# Altium schematic symbol library SM.HOMESchlib.SchLib: 19 symbols
Pins are listed as number, name and electrical type; pins without a type are passive.

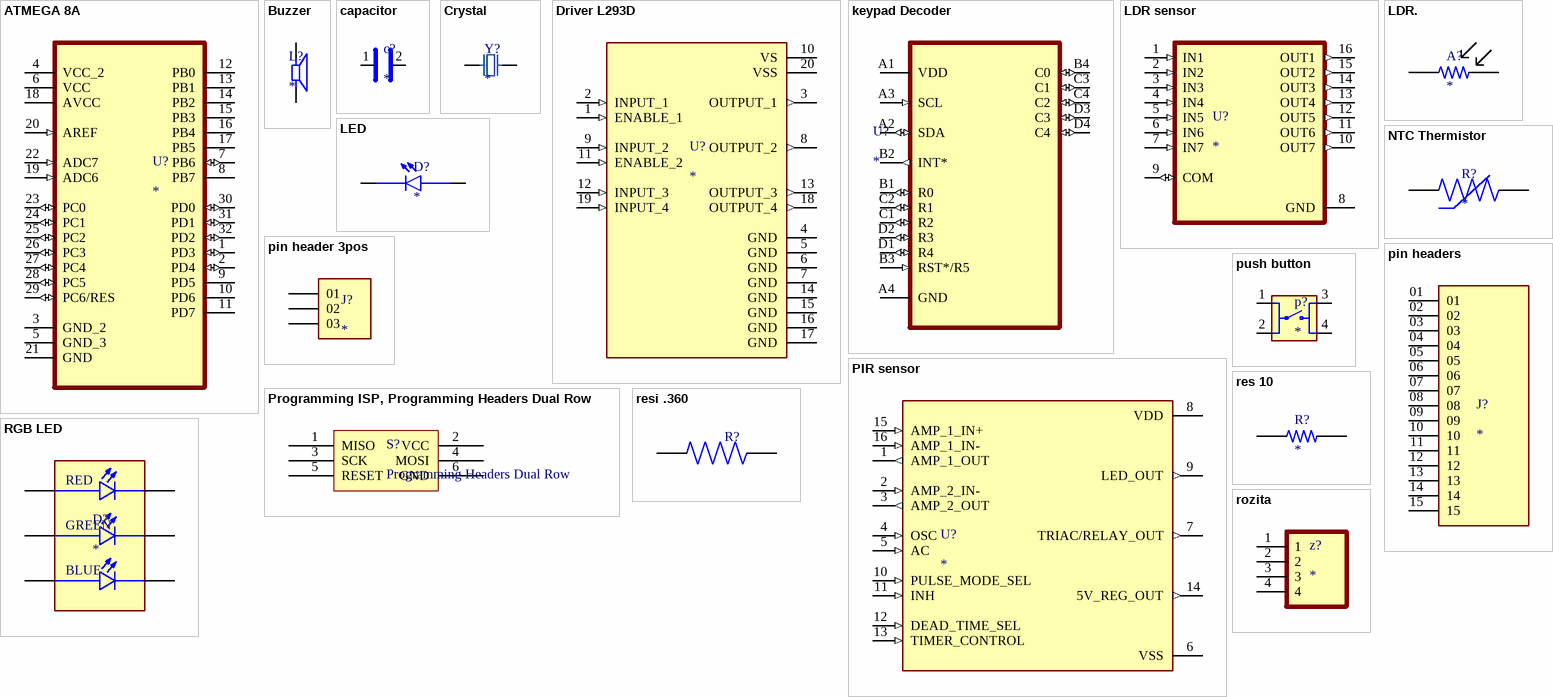
[diagram p0: symbols ATMEGA 8A to rozita]

## ATMEGA 8A
designator U?
IC MCU 8BIT 8KB FLASH 32TQFP; Manufacturer: Microchip Technology; Manufacturer Product Number: ATMEGA8A-AN; Supplier: DigiKey; DigiKey Part Number: ATMEGA8A-AN-ND
footprint ATMEGA 8A
pins: 1 PD3 (io), 2 PD4 (io), 3 GND_2, 4 VCC_2 (power), 5 GND_3, 6 VCC (power), 7 PB6 (io), 8 PB7, 9 PD5, 10 PD6, 11 PD7, 12 PB0, 13 PB1, 14 PB2, 15 PB3, 16 PB4, 17 PB5, 18 AVCC (power), 19 ADC6 (in), 20 AREF (in), 21 GND, 22 ADC7 (in), 23 PC0 (io), 24 PC1 (io), 25 PC2 (io), 26 PC3 (io), 27 PC4 (io), 28 PC5 (io), 29 PC6/RES (io), 30 PD0 (io), 31 PD1 (io), 32 PD2 (io)

## Buzzer
designator L?
BUZZER MAGNETIC 5V 12.8X12.8 SMD; Manufacturer: CUI Devices; Manufacturer Product Number: CT-1205H-SMT-TR; Supplier: DigiKey; DigiKey Part Number: 102-1266-2-ND
footprint Buzzer
pins: 1, 2

## capacitor
designator c?
CAP CER 10UF 10V X7R 0603; Manufacturer: Murata Electronics; Manufacturer Product Number: GRM188Z71A106KA73D; Supplier: DigiKey; DigiKey Part Number: 490-GRM188Z71A106KA73DTR-ND
footprint capacitor
pins: 1, 2

## Crystal
designator Y?
CRYSTAL 16.0000MHZ SERIES SMD; Manufacturer: ECS Inc.; Manufacturer Product Number: ECS-160-S-5PX-TR; Supplier: DigiKey; DigiKey Part Number: XC1251TR-ND
footprint Crystal
pins: 1, 2

## Driver L293D
designator U?
IC MTR DRV BIPOLR 4.5-36V 20SOIC; Manufacturer: STMicroelectronics; Manufacturer Product Number: L293DD; Supplier: DigiKey; DigiKey Part Number: 497-1390-5-ND
footprint Driver L293D
pins: 1 ENABLE_1 (in), 2 INPUT_1 (in), 3 OUTPUT_1 (out), 4 GND (power), 5 GND (power), 6 GND (power), 7 GND (power), 8 OUTPUT_2 (out), 9 INPUT_2 (in), 10 VS (power), 11 ENABLE_2 (in), 12 INPUT_3 (in), 13 OUTPUT_3 (out), 14 GND (power), 15 GND (power), 16 GND (power), 17 GND (power), 18 OUTPUT_4 (out), 19 INPUT_4 (in), 20 VSS (power)

## keypad Decoder
designator U?
IC INTFACE SPECIALIZED 16WLCSP; Manufacturer: Analog Devices Inc.; Manufacturer Product Number: ADP5585ACBZ-00-R7; Supplier: DigiKey; DigiKey Part Number: ADP5585ACBZ-00-R7TR-ND
footprint keypad decoder
pins: A1 VDD (power), A2 SDA (io), A3 SCL (in), A4 GND, B1 R0 (io), B2 INT* (out), B3 RST*/R5 (in), B4 C0 (io), C1 R2 (io), C2 R1 (io), C3 C1 (io), C4 C2 (io), D1 R4 (io), D2 R3 (io), D3 C3 (io), D4 C4 (io)

## LDR sensor
designator U?
IC PWR DRIVER N-CHAN 1:1 16SOIC; Manufacturer: Texas Instruments; Manufacturer Product Number: TPL7407LDR; Supplier: DigiKey; DigiKey Part Number: 296-37284-2-ND
footprint LDR sensor
pins: 1 IN1 (in), 2 IN2 (in), 3 IN3 (in), 4 IN4 (in), 5 IN5 (in), 6 IN6 (in), 7 IN7 (in), 8 GND (power), 9 COM (io), 10 OUT7 (out), 11 OUT6 (out), 12 OUT5 (out), 13 OUT4 (out), 14 OUT3 (out), 15 OUT2 (out), 16 OUT1 (out)

## LDR.
designator A?
SENSOR PHOTO 630NM 2SMD; Manufacturer: Everlight Electronics Co Ltd; Manufacturer Product Number: ALS-PT19-315C/L177/TR8; Supplier: DigiKey; DigiKey Part Number: 1080-1244-2-ND
footprint LDR.
pins: 1, 2

## LED
designator D?
LED YELLOW DIFFUSED 2SMD; Manufacturer: Dialight; Manufacturer Product Number: 5975411402F; Supplier: DigiKey; DigiKey Part Number: 350-2894-ND
footprint LED
pins: A, C

## NTC Thermistor
designator R?
THERM NTC 4.7KOHM 3500K 0603; Manufacturer: Murata Electronics; Manufacturer Product Number: NCP18XM472E03RB; Supplier: DigiKey; DigiKey Part Number: 490-NCP18XM472E03RBCT-ND
footprint NTC Thermistor
pins: 1, 2

## pin header 3pos
designator J?
CONN HDR .100" 3POS; Manufacturer: Samtec Inc.; Manufacturer Product Number: TS-103-T-A-1; Supplier: DigiKey; DigiKey Part Number: 612-TS-103-T-A-1-ND
footprint PIN HEADER 3POS
pins: 01, 02, 03

## pin headers
designator J?
CONN HDR .100" 15POS; Manufacturer: Samtec Inc.; Manufacturer Product Number: TS-115-G-AA; Supplier: DigiKey; DigiKey Part Number: 612-TS-115-G-AA-ND
footprint pin header
pins: 01, 02, 03, 04, 05, 06, 07, 08, 09, 10, 11, 12, 13, 14, 15

## PIR sensor
designator U?
IC SENSOR INTERFACE 16SOIC; Manufacturer: LSI/CSI; Manufacturer Product Number: LS6522-S; Supplier: DigiKey; DigiKey Part Number: 2808-LS6522-S-ND
footprint PIR Sensor
pins: 1 AMP_1_OUT (out), 2 AMP_2_IN- (in), 3 AMP_2_OUT (out), 4 OSC (in), 5 AC (in), 6 VSS (power), 7 TRIAC/RELAY_OUT (out), 8 VDD (power), 9 LED_OUT (out), 10 PULSE_MODE_SEL (in), 11 INH (in), 12 DEAD_TIME_SEL (in), 13 TIMER_CONTROL (in), 14 5V_REG_OUT (out), 15 AMP_1_IN+ (in), 16 AMP_1_IN- (in)

## Programming ISP, Programming Headers Dual Row
designator S?, comment Programming Headers Dual Row
Manufacturer: FCI; Manufacturer Part No.: 68000-236HLF; RS Stock No.: 2509565626
footprint ISP HEADER (SIL Header for programming)
pins: 1 MISO, 2 VCC, 3 SCK, 4 MOSI, 5 RESET, 6 GND

## push button
designator p?
SWITCH TACTILE SPST-NO 0.05A 24V; Manufacturer: TE Connectivity ALCOSWITCH Switches; Manufacturer Product Number: FSM6JSMA; Supplier: DigiKey; DigiKey Part Number: 450-1133-ND
footprint push button
pins: 1, 2, 3, 4

## res 10
designator R?
RES SMD 10K OHM 1% 1/16W 0603; Manufacturer: TE Connectivity Passive Product; Manufacturer Product Number: CPF0603F10KC1; Supplier: DigiKey; DigiKey Part Number: A102203TR-ND
footprint res10
pins: 1, 2

## resi .360
designator R?
RES SMD 360 OHM 0.1% 1/16W 0402; Manufacturer: Panasonic Electronic Components; Manufacturer Product Number: ERA-2APB361X; Supplier: DigiKey; DigiKey Part Number: P360CNTR-ND
footprint res .360
pins: 1, 2

## RGB LED
designator D?
LED RGB DIFFUSED 6PLCC SMD; Manufacturer: Broadcom Limited; Manufacturer Product Number: ASMB-TTF2-0B20B; Supplier: DigiKey; DigiKey Part Number: 516-3909-2-ND
footprint RGB LED
pins: 1 R_A, 2 R_C, 3 G_A, 4 G_C, 5 B_A, 6 B_C
text: RED; GREEN; BLUE

## rozita
designator z?
TERM BLK 4P SIDE ENT 5.08MM PCB; Manufacturer: TE Connectivity AMP Connectors; Manufacturer Product Number: 282837-4; Supplier: DigiKey; DigiKey Part Number: A124423-ND
footprint rozita
pins: 1, 2, 3, 4